# Altium schematic symbol library MCU_ST_STM8.SchLib: 34 symbols
Pins are listed as number, name and electrical type; pins without a type are passive.

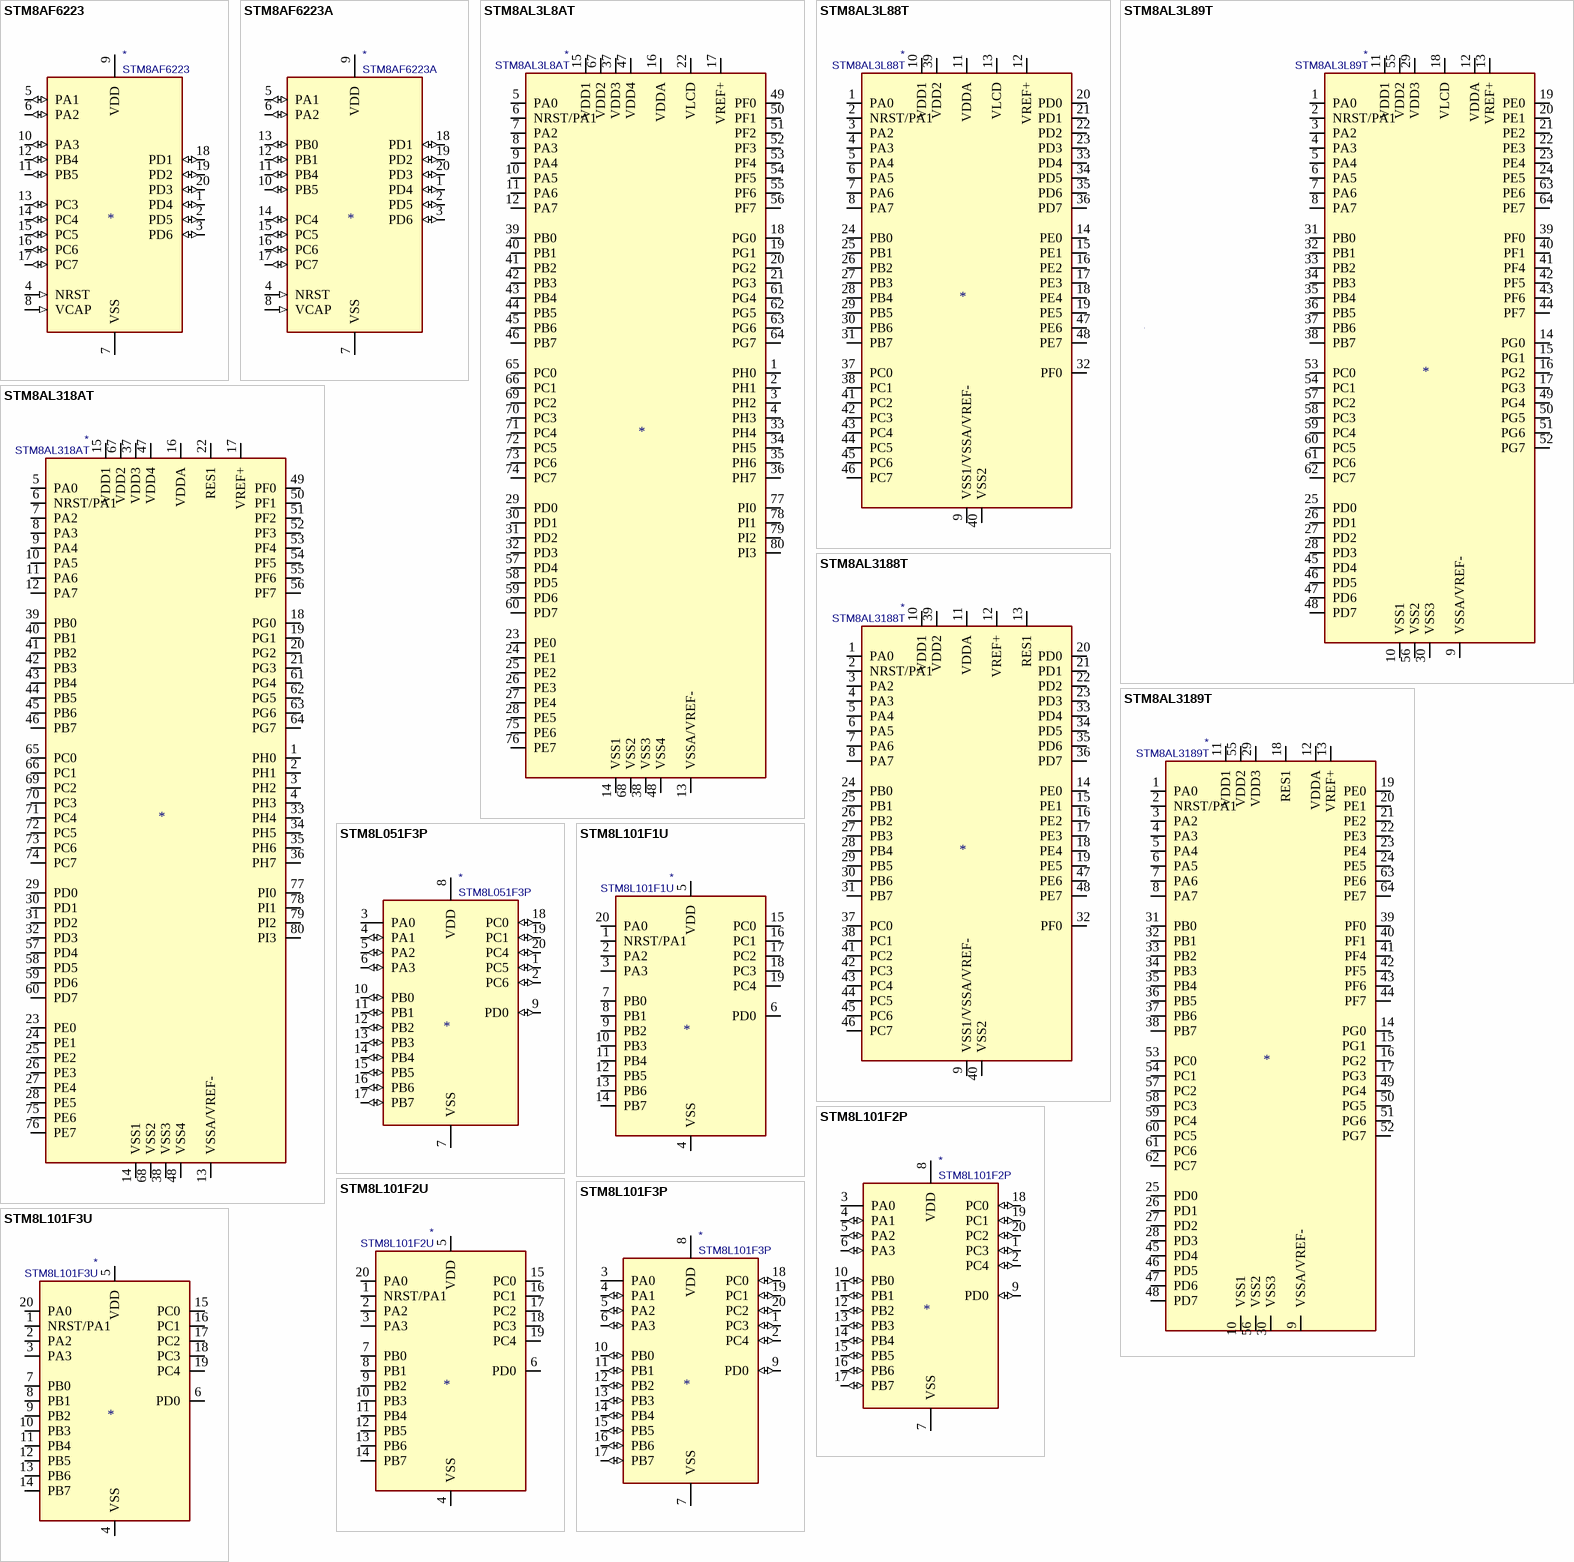
[diagram p0: symbols STM8AF6223 to STM8L101F3U]

## STM8AF6223
designator *  value STM8AF6223
ki_keywords: STM8 Microcontroller Automotive Line; ki_description: 16MHz, 8K Flash, 1K RAM, 640 EEPROM, USART, LIN,  I²C, SPI, ADC, TSSOP-20; ki_fp_filters: TSSOP*4.4x6.5mm*P0.65mm*; Footprint: Package_SO:TSSOP-20_4.4x6.5mm_P0.65mm; Supplier: http://www.st.com/resource/en/datasheet/stm8af6223.pdf
footprint TSSOP-20_4.4x6.5mm_P0.65mm
pins: 1 PD4 (io), 2 PD5 (io), 3 PD6 (io), 4 NRST (in), 5 PA1 (io), 6 PA2 (io), 7 VSS (power), 8 VCAP (in), 9 VDD (power), 10 PA3 (io), 11 PB5 (io), 12 PB4 (io), 13 PC3 (io), 14 PC4 (io), 15 PC5 (io), 16 PC6 (io), 17 PC7 (io), 18 PD1 (io), 19 PD2 (io), 20 PD3 (io)

## STM8AF6223A
designator *  value STM8AF6223A
ki_keywords: STM8 Microcontroller Automotive Line; ki_description: 16MHz, 8K Flash, 1K RAM, 640 EEPROM, USART, LIN,  I²C, SPI, ADC, TSSOP-20; ki_fp_filters: TSSOP*4.4x6.5mm*P0.65mm*; Footprint: Package_SO:TSSOP-20_4.4x6.5mm_P0.65mm; Supplier: http://www.st.com/resource/en/datasheet/stm8af6223.pdf
footprint TSSOP-20_4.4x6.5mm_P0.65mm
pins: 1 PD4 (io), 2 PD5 (io), 3 PD6 (io), 4 NRST (in), 5 PA1 (io), 6 PA2 (io), 7 VSS (power), 8 VCAP (in), 9 VDD (power), 10 PB5 (io), 11 PB4 (io), 12 PB1 (io), 13 PB0 (io), 14 PC4 (io), 15 PC5 (io), 16 PC6 (io), 17 PC7 (io), 18 PD1 (io), 19 PD2 (io), 20 PD3 (io)

## STM8AL3L8AT
designator *  value STM8AL3L8AT
ki_keywords: STM8 automotive ultra-low-power; ki_description: Automotive 8-bit ultra-low-power MCU, 64-Kbyte Flash with LCD, LQFP-80; ki_fp_filters: LQFP*14x14mm*P0.65mm*; Footprint: Package_QFP:LQFP-80_14x14mm_P0.65mm; Supplier: https://www.st.com/resource/en/datasheet/stm8al3188.pdf
footprint LQFP-80_14x14mm_P0.65mm
pins: 1 PH0 (io), 2 PH1 (io), 3 PH2 (io), 4 PH3 (io), 5 PA0 (io), 6 NRST/PA1 (io), 7 PA2 (io), 8 PA3 (io), 9 PA4 (io), 10 PA5 (io), 11 PA6 (io), 12 PA7 (io), 13 VSSA/VREF- (power), 14 VSS1 (power), 15 VDD1 (power), 16 VDDA (power), 17 VREF+ (power), 18 PG0 (io), 19 PG1 (io), 20 PG2 (io), 21 PG3 (io), 22 VLCD (power), 23 PE0 (io), 24 PE1 (io), 25 PE2 (io), 26 PE3 (io), 27 PE4 (io), 28 PE5 (io), 29 PD0 (io), 30 PD1 (io), 31 PD2 (io), 32 PD3 (io), 33 PH4 (io), 34 PH5 (io), 35 PH6 (io), 36 PH7 (io), 37 VDD3 (power), 38 VSS3 (power), 39 PB0 (io), 40 PB1 (io), 41 PB2 (io), 42 PB3 (io), 43 PB4 (io), 44 PB5 (io), 45 PB6 (io), 46 PB7 (io), 47 VDD4 (power), 48 VSS4 (power), 49 PF0 (io), 50 PF1 (io), 51 PF2 (io), 52 PF3 (io), 53 PF4 (io), 54 PF5 (io), 55 PF6 (io), 56 PF7 (io), 57 PD4 (io), 58 PD5 (io), 59 PD6 (io), 60 PD7 (io), 61 PG4 (io), 62 PG5 (io), 63 PG6 (io), 64 PG7 (io), 65 PC0 (io), 66 PC1 (io), 67 VDD2 (power), 68 VSS2 (power), 69 PC2 (io), 70 PC3 (io), 71 PC4 (io), 72 PC5 (io), 73 PC6 (io), 74 PC7 (io), 75 PE6 (io), 76 PE7 (io), 77 PI0 (io), 78 PI1 (io), 79 PI2 (io), 80 PI3 (io)

## STM8AL3L88T
designator *  value STM8AL3L88T
ki_keywords: STM8 automotive ultra-low-power; ki_description: Automotive 8-bit ultra-low-power MCU, 64-Kbyte Flash with LCD, LQFP-48; ki_fp_filters: LQFP*7x7mm*P0.5mm*; Footprint: Package_QFP:LQFP-48_7x7mm_P0.5mm; Supplier: https://www.st.com/resource/en/datasheet/stm8al3188.pdf
footprint LQFP-48_7x7mm_P0.5mm
pins: 1 PA0 (io), 2 NRST/PA1 (io), 3 PA2 (io), 4 PA3 (io), 5 PA4 (io), 6 PA5 (io), 7 PA6 (io), 8 PA7 (io), 9 VSS1/VSSA/VREF- (power), 10 VDD1 (power), 11 VDDA (power), 12 VREF+ (power), 13 VLCD (power), 14 PE0 (io), 15 PE1 (io), 16 PE2 (io), 17 PE3 (io), 18 PE4 (io), 19 PE5 (io), 20 PD0 (io), 21 PD1 (io), 22 PD2 (io), 23 PD3 (io), 24 PB0 (io), 25 PB1 (io), 26 PB2 (io), 27 PB3 (io), 28 PB4 (io), 29 PB5 (io), 30 PB6 (io), 31 PB7 (io), 32 PF0 (io), 33 PD4 (io), 34 PD5 (io), 35 PD6 (io), 36 PD7 (io), 37 PC0 (io), 38 PC1 (io), 39 VDD2 (power), 40 VSS2 (power), 41 PC2 (io), 42 PC3 (io), 43 PC4 (io), 44 PC5 (io), 45 PC6 (io), 46 PC7 (io), 47 PE6 (io), 48 PE7 (io)

## STM8AL3L89T
designator *  value STM8AL3L89T
ki_keywords: STM8 automotive ultra-low-power; ki_description: Automotive 8-bit ultra-low-power MCU, 64-Kbyte Flash with LCD, LQFP-64; ki_fp_filters: LQFP*10x10mm*P0.5mm*; Footprint: Package_QFP:LQFP-64_10x10mm_P0.5mm; Supplier: https://www.st.com/resource/en/datasheet/stm8al3188.pdf
footprint LQFP-64_10x10mm_P0.5mm
pins: 1 PA0 (io), 2 NRST/PA1 (io), 3 PA2 (io), 4 PA3 (io), 5 PA4 (io), 6 PA5 (io), 7 PA6 (io), 8 PA7 (io), 9 VSSA/VREF- (power), 10 VSS1 (power), 11 VDD1 (power), 12 VDDA (power), 13 VREF+ (power), 14 PG0 (io), 15 PG1 (io), 16 PG2 (io), 17 PG3 (io), 18 VLCD (power), 19 PE0 (io), 20 PE1 (io), 21 PE2 (io), 22 PE3 (io), 23 PE4 (io), 24 PE5 (io), 25 PD0 (io), 26 PD1 (io), 27 PD2 (io), 28 PD3 (io), 29 VDD3 (power), 30 VSS3 (power), 31 PB0 (io), 32 PB1 (io), 33 PB2 (io), 34 PB3 (io), 35 PB4 (io), 36 PB5 (io), 37 PB6 (io), 38 PB7 (io), 39 PF0 (io), 40 PF1 (io), 41 PF4 (io), 42 PF5 (io), 43 PF6 (io), 44 PF7 (io), 45 PD4 (io), 46 PD5 (io), 47 PD6 (io), 48 PD7 (io), 49 PG4 (io), 50 PG5 (io), 51 PG6 (io), 52 PG7 (io), 53 PC0 (io), 54 PC1 (io), 55 VDD2 (power), 56 VSS2 (power), 57 PC2 (io), 58 PC3 (io), 59 PC4 (io), 60 PC5 (io), 61 PC6 (io), 62 PC7 (io), 63 PE6 (io), 64 PE7 (io)

## STM8AL318AT
designator *  value STM8AL318AT
ki_keywords: STM8 automotive ultra-low-power; ki_description: Automotive 8-bit ultra-low-power MCU, 64-Kbyte Flash, LQFP-80; ki_fp_filters: LQFP*14x14mm*P0.65mm*; Footprint: Package_QFP:LQFP-80_14x14mm_P0.65mm; Supplier: https://www.st.com/resource/en/datasheet/stm8al3188.pdf
footprint LQFP-80_14x14mm_P0.65mm
pins: 1 PH0 (io), 2 PH1 (io), 3 PH2 (io), 4 PH3 (io), 5 PA0 (io), 6 NRST/PA1 (io), 7 PA2 (io), 8 PA3 (io), 9 PA4 (io), 10 PA5 (io), 11 PA6 (io), 12 PA7 (io), 13 VSSA/VREF- (power), 14 VSS1 (power), 15 VDD1 (power), 16 VDDA (power), 17 VREF+ (power), 18 PG0 (io), 19 PG1 (io), 20 PG2 (io), 21 PG3 (io), 22 RES1 (power), 23 PE0 (io), 24 PE1 (io), 25 PE2 (io), 26 PE3 (io), 27 PE4 (io), 28 PE5 (io), 29 PD0 (io), 30 PD1 (io), 31 PD2 (io), 32 PD3 (io), 33 PH4 (io), 34 PH5 (io), 35 PH6 (io), 36 PH7 (io), 37 VDD3 (power), 38 VSS3 (power), 39 PB0 (io), 40 PB1 (io), 41 PB2 (io), 42 PB3 (io), 43 PB4 (io), 44 PB5 (io), 45 PB6 (io), 46 PB7 (io), 47 VDD4 (power), 48 VSS4 (power), 49 PF0 (io), 50 PF1 (io), 51 PF2 (io), 52 PF3 (io), 53 PF4 (io), 54 PF5 (io), 55 PF6 (io), 56 PF7 (io), 57 PD4 (io), 58 PD5 (io), 59 PD6 (io), 60 PD7 (io), 61 PG4 (io), 62 PG5 (io), 63 PG6 (io), 64 PG7 (io), 65 PC0 (io), 66 PC1 (io), 67 VDD2 (power), 68 VSS2 (power), 69 PC2 (io), 70 PC3 (io), 71 PC4 (io), 72 PC5 (io), 73 PC6 (io), 74 PC7 (io), 75 PE6 (io), 76 PE7 (io), 77 PI0 (io), 78 PI1 (io), 79 PI2 (io), 80 PI3 (io)

## STM8AL3188T
designator *  value STM8AL3188T
ki_keywords: STM8 automotive ultra-low-power; ki_description: Automotive 8-bit ultra-low-power MCU, 64-Kbyte Flash, LQFP-48; ki_fp_filters: LQFP*7x7mm*P0.5mm*; Footprint: Package_QFP:LQFP-48_7x7mm_P0.5mm; Supplier: https://www.st.com/resource/en/datasheet/stm8al3188.pdf
footprint LQFP-48_7x7mm_P0.5mm
pins: 1 PA0 (io), 2 NRST/PA1 (io), 3 PA2 (io), 4 PA3 (io), 5 PA4 (io), 6 PA5 (io), 7 PA6 (io), 8 PA7 (io), 9 VSS1/VSSA/VREF- (power), 10 VDD1 (power), 11 VDDA (power), 12 VREF+ (power), 13 RES1 (power), 14 PE0 (io), 15 PE1 (io), 16 PE2 (io), 17 PE3 (io), 18 PE4 (io), 19 PE5 (io), 20 PD0 (io), 21 PD1 (io), 22 PD2 (io), 23 PD3 (io), 24 PB0 (io), 25 PB1 (io), 26 PB2 (io), 27 PB3 (io), 28 PB4 (io), 29 PB5 (io), 30 PB6 (io), 31 PB7 (io), 32 PF0 (io), 33 PD4 (io), 34 PD5 (io), 35 PD6 (io), 36 PD7 (io), 37 PC0 (io), 38 PC1 (io), 39 VDD2 (power), 40 VSS2 (power), 41 PC2 (io), 42 PC3 (io), 43 PC4 (io), 44 PC5 (io), 45 PC6 (io), 46 PC7 (io), 47 PE6 (io), 48 PE7 (io)

## STM8AL3189T
designator *  value STM8AL3189T
ki_keywords: STM8 automotive ultra-low-power; ki_description: Automotive 8-bit ultra-low-power MCU, 64-Kbyte Flash, LQFP-64; ki_fp_filters: LQFP*10x10mm*P0.5mm*; Footprint: Package_QFP:LQFP-64_10x10mm_P0.5mm; Supplier: https://www.st.com/resource/en/datasheet/stm8al3188.pdf
footprint LQFP-64_10x10mm_P0.5mm
pins: 1 PA0 (io), 2 NRST/PA1 (io), 3 PA2 (io), 4 PA3 (io), 5 PA4 (io), 6 PA5 (io), 7 PA6 (io), 8 PA7 (io), 9 VSSA/VREF- (power), 10 VSS1 (power), 11 VDD1 (power), 12 VDDA (power), 13 VREF+ (power), 14 PG0 (io), 15 PG1 (io), 16 PG2 (io), 17 PG3 (io), 18 RES1 (power), 19 PE0 (io), 20 PE1 (io), 21 PE2 (io), 22 PE3 (io), 23 PE4 (io), 24 PE5 (io), 25 PD0 (io), 26 PD1 (io), 27 PD2 (io), 28 PD3 (io), 29 VDD3 (power), 30 VSS3 (power), 31 PB0 (io), 32 PB1 (io), 33 PB2 (io), 34 PB3 (io), 35 PB4 (io), 36 PB5 (io), 37 PB6 (io), 38 PB7 (io), 39 PF0 (io), 40 PF1 (io), 41 PF4 (io), 42 PF5 (io), 43 PF6 (io), 44 PF7 (io), 45 PD4 (io), 46 PD5 (io), 47 PD6 (io), 48 PD7 (io), 49 PG4 (io), 50 PG5 (io), 51 PG6 (io), 52 PG7 (io), 53 PC0 (io), 54 PC1 (io), 55 VDD2 (power), 56 VSS2 (power), 57 PC2 (io), 58 PC3 (io), 59 PC4 (io), 60 PC5 (io), 61 PC6 (io), 62 PC7 (io), 63 PE6 (io), 64 PE7 (io)

## STM8L051F3P
designator *  value STM8L051F3P
ki_keywords: STM8L Microcontroller Value Line Low Power; ki_description: 16MHz, 8K Flash, 1K RAM, 256 EEPROM, RTC, USART,  I²C, SPI, ADC, TSSOP-20; ki_fp_filters: TSSOP*4.4x6.5mm*P0.65mm*; Footprint: Package_SO:TSSOP-20_4.4x6.5mm_P0.65mm; Supplier: http://www.st.com/st-web-ui/static/active/en/resource/technical/document/datasheet/DM00060484.pdf
footprint TSSOP-20_4.4x6.5mm_P0.65mm
pins: 1 PC5 (io), 2 PC6 (io), 3 PA0 (power), 4 PA1 (io), 5 PA2 (io), 6 PA3 (io), 7 VSS (power), 8 VDD (power), 9 PD0 (io), 10 PB0 (io), 11 PB1 (io), 12 PB2 (io), 13 PB3 (io), 14 PB4 (io), 15 PB5 (io), 16 PB6 (io), 17 PB7 (io), 18 PC0 (io), 19 PC1 (io), 20 PC4 (io)

## STM8L101F1U
designator *  value STM8L101F1U
ki_keywords: STM8L Microcontroller Value Line Low Power; ki_description: 16MHz, 2K Flash, 1.5K RAM, 2K EEPROM, USART,  I²C, SPI, ADC, UFQFPN-20; ki_fp_filters: ST?UFQFPN*3x3mm*P0.5mm*; Footprint: Package_DFN_QFN:ST_UFQFPN-20_3x3mm_P0.5mm; Supplier: https://www.st.com/resource/en/datasheet/stm8l101f1.pdf
footprint ST_UFQFPN-20_3x3mm_P0.5mm
pins: 1 NRST/PA1 (io), 2 PA2 (io), 3 PA3 (io), 4 VSS (power), 5 VDD (power), 6 PD0 (io), 7 PB0 (io), 8 PB1 (io), 9 PB2 (io), 10 PB3 (io), 11 PB4 (io), 12 PB5 (io), 13 PB6 (io), 14 PB7 (io), 15 PC0 (io), 16 PC1 (io), 17 PC2 (io), 18 PC3 (io), 19 PC4 (io), 20 PA0 (io)

## STM8L101F2P
designator *  value STM8L101F2P
ki_keywords: STM8L Microcontroller Value Line Low Power; ki_description: 16MHz, 4K Flash, 1.5K RAM, 2K EEPROM, USART,  I²C, SPI, ADC, TSSOP-20; ki_fp_filters: TSSOP*4.4x6.5mm*P0.65mm*; Footprint: Package_SO:TSSOP-20_4.4x6.5mm_P0.65mm; Supplier: http://www.st.com/st-web-ui/static/active/en/resource/technical/document/datasheet/CD00220591.pdf
footprint TSSOP-20_4.4x6.5mm_P0.65mm
pins: 1 PC3 (io), 2 PC4 (io), 3 PA0 (power), 4 PA1 (io), 5 PA2 (io), 6 PA3 (io), 7 VSS (power), 8 VDD (power), 9 PD0 (io), 10 PB0 (io), 11 PB1 (io), 12 PB2 (io), 13 PB3 (io), 14 PB4 (io), 15 PB5 (io), 16 PB6 (io), 17 PB7 (io), 18 PC0 (io), 19 PC1 (io), 20 PC2 (io)

## STM8L101F2U
designator *  value STM8L101F2U
ki_keywords: STM8L Microcontroller Value Line Low Power; ki_description: 16MHz, 4K Flash, 1.5K RAM, 2K EEPROM, USART,  I²C, SPI, ADC, UFQFPN-20; ki_fp_filters: ST?UFQFPN*3x3mm*P0.5mm*; Footprint: Package_DFN_QFN:ST_UFQFPN-20_3x3mm_P0.5mm; Supplier: https://www.st.com/resource/en/datasheet/stm8l101f1.pdf
footprint ST_UFQFPN-20_3x3mm_P0.5mm
pins: 1 NRST/PA1 (io), 2 PA2 (io), 3 PA3 (io), 4 VSS (power), 5 VDD (power), 6 PD0 (io), 7 PB0 (io), 8 PB1 (io), 9 PB2 (io), 10 PB3 (io), 11 PB4 (io), 12 PB5 (io), 13 PB6 (io), 14 PB7 (io), 15 PC0 (io), 16 PC1 (io), 17 PC2 (io), 18 PC3 (io), 19 PC4 (io), 20 PA0 (io)

## STM8L101F3P
designator *  value STM8L101F3P
ki_keywords: STM8L Microcontroller Value Line Low Power; ki_description: 16MHz, 8K Flash, 1.5K RAM, 2K EEPROM, USART, I²C, SPI, ADC, TSSOP-20; ki_fp_filters: TSSOP*4.4x6.5mm*P0.65mm*; Footprint: Package_SO:TSSOP-20_4.4x6.5mm_P0.65mm; Supplier: http://www.st.com/st-web-ui/static/active/en/resource/technical/document/datasheet/CD00220591.pdf
footprint TSSOP-20_4.4x6.5mm_P0.65mm
pins: 1 PC3 (io), 2 PC4 (io), 3 PA0 (power), 4 PA1 (io), 5 PA2 (io), 6 PA3 (io), 7 VSS (power), 8 VDD (power), 9 PD0 (io), 10 PB0 (io), 11 PB1 (io), 12 PB2 (io), 13 PB3 (io), 14 PB4 (io), 15 PB5 (io), 16 PB6 (io), 17 PB7 (io), 18 PC0 (io), 19 PC1 (io), 20 PC2 (io)

## STM8L101F3U
designator *  value STM8L101F3U
ki_keywords: STM8L Microcontroller Value Line Low Power; ki_description: 16MHz, 8K Flash, 1.5K RAM, 2K EEPROM, USART,  I²C, SPI, ADC, UFQFPN-20; ki_fp_filters: ST?UFQFPN*3x3mm*P0.5mm*; Footprint: Package_DFN_QFN:ST_UFQFPN-20_3x3mm_P0.5mm; Supplier: https://www.st.com/resource/en/datasheet/stm8l101f1.pdf
footprint ST_UFQFPN-20_3x3mm_P0.5mm
pins: 1 NRST/PA1 (io), 2 PA2 (io), 3 PA3 (io), 4 VSS (power), 5 VDD (power), 6 PD0 (io), 7 PB0 (io), 8 PB1 (io), 9 PB2 (io), 10 PB3 (io), 11 PB4 (io), 12 PB5 (io), 13 PB6 (io), 14 PB7 (io), 15 PC0 (io), 16 PC1 (io), 17 PC2 (io), 18 PC3 (io), 19 PC4 (io), 20 PA0 (io)

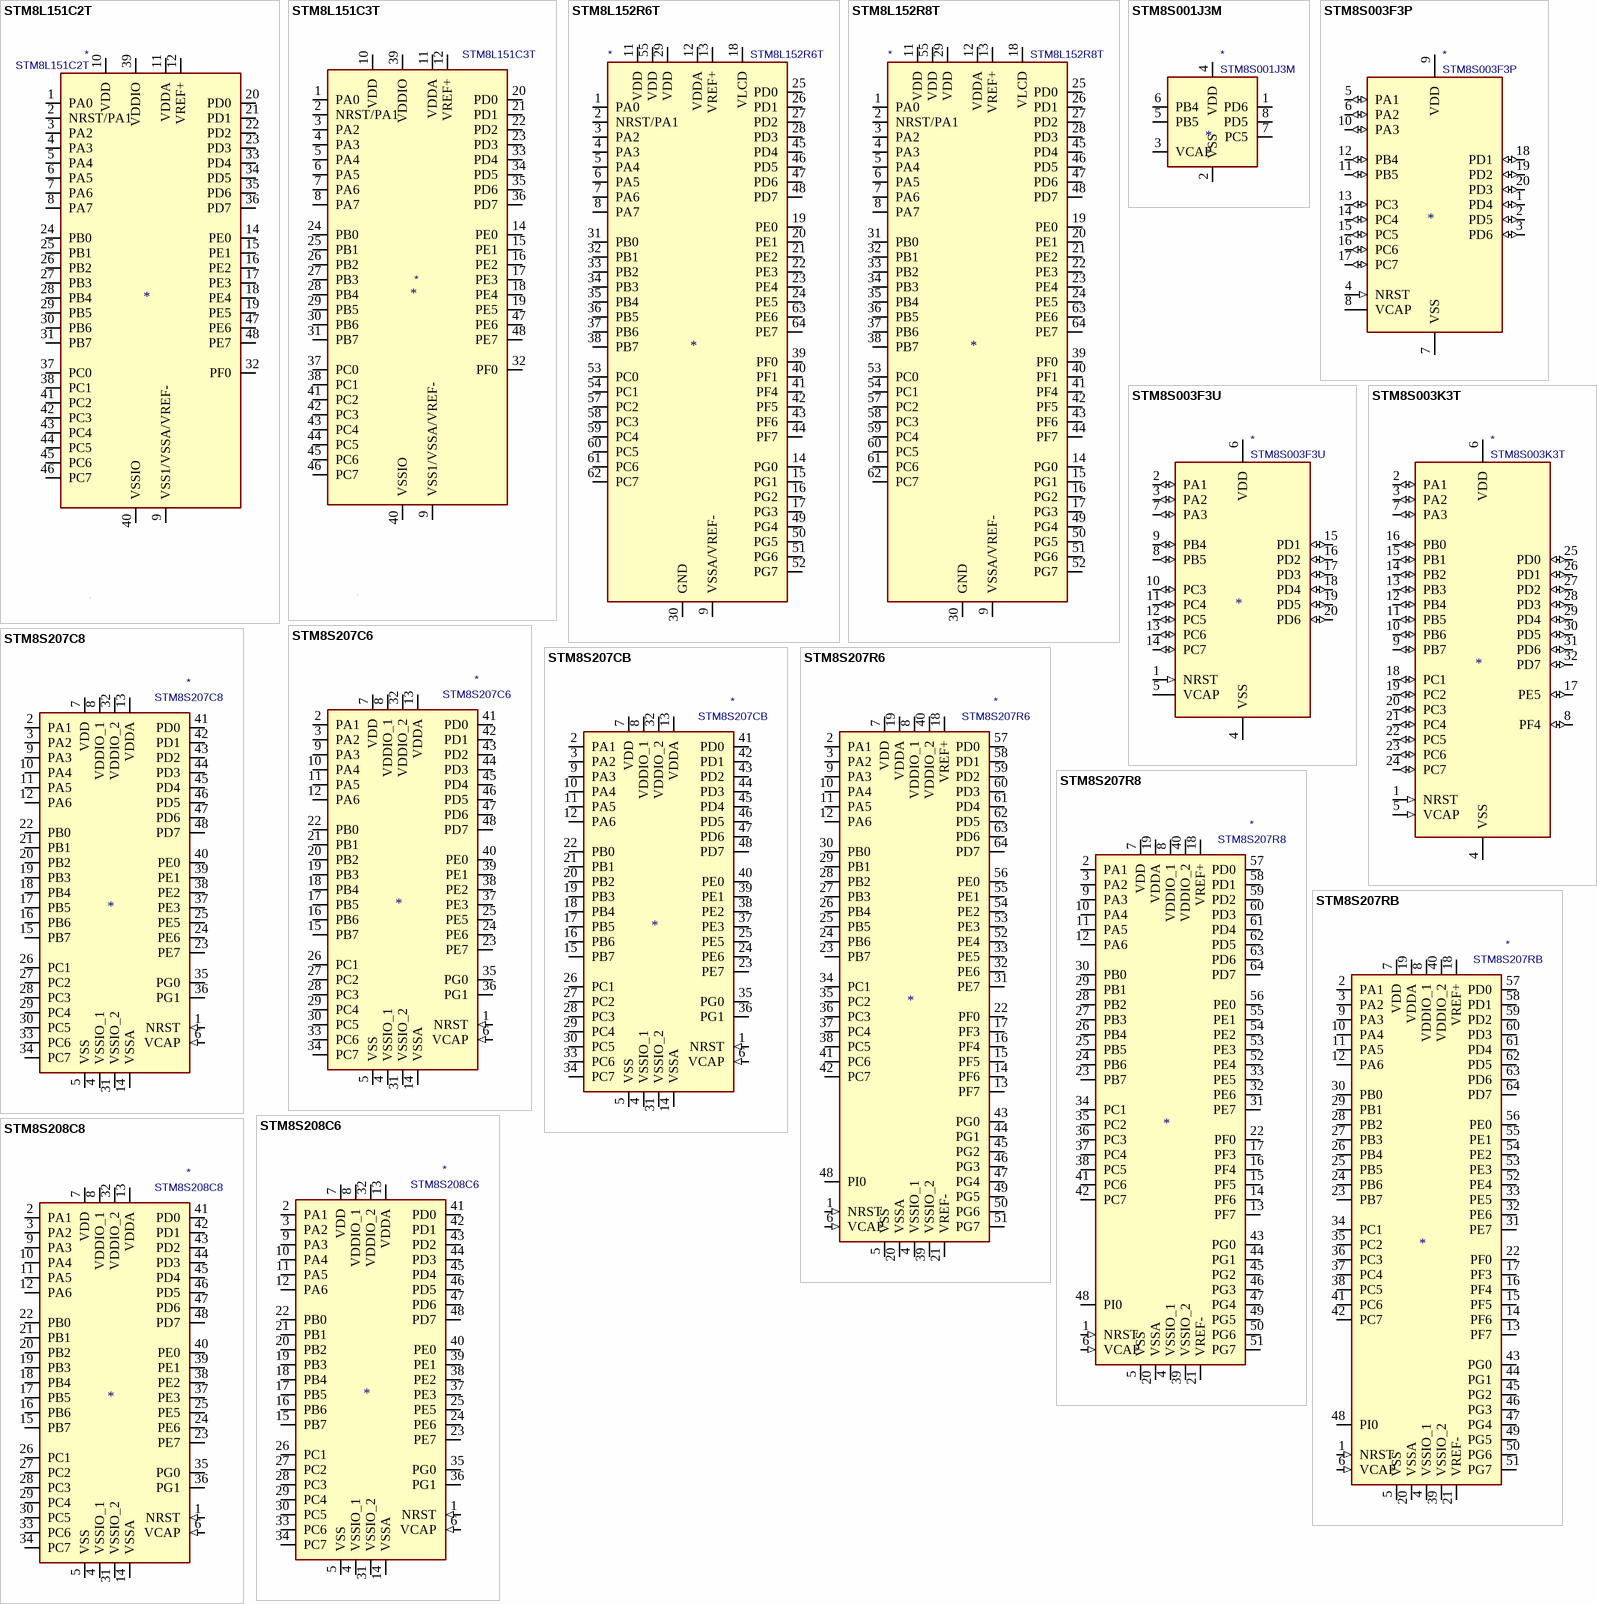
[diagram p1: symbols STM8L151C2T to STM8S208C8]

## STM8L151C2T
designator *  value STM8L151C2T
ki_keywords: STM8 ultra-low-power; ki_description: 8-bit ultra-low-power MCU, 4 KB Flash, 256 bytes data EEPROM, LQFP-48; ki_fp_filters: LQFP*7x7mm*P0.5mm*; Footprint: Package_QFP:LQFP-48_7x7mm_P0.5mm; Supplier: https://www.st.com/resource/en/datasheet/stm8l151c3.pdf
footprint LQFP-48_7x7mm_P0.5mm
pins: 1 PA0 (io), 2 NRST/PA1 (io), 3 PA2 (io), 4 PA3 (io), 5 PA4 (io), 6 PA5 (io), 7 PA6 (io), 8 PA7 (io), 9 VSS1/VSSA/VREF- (power), 10 VDD (power), 11 VDDA (power), 12 VREF+ (power), 13 NC (in) hidden, 14 PE0 (io), 15 PE1 (io), 16 PE2 (io), 17 PE3 (io), 18 PE4 (io), 19 PE5 (io), 20 PD0 (io), 21 PD1 (io), 22 PD2 (io), 23 PD3 (io), 24 PB0 (io), 25 PB1 (io), 26 PB2 (io), 27 PB3 (io), 28 PB4 (io), 29 PB5 (io), 30 PB6 (io), 31 PB7 (io), 32 PF0 (io), 33 PD4 (io), 34 PD5 (io), 35 PD6 (io), 36 PD7 (io), 37 PC0 (io), 38 PC1 (io), 39 VDDIO (power), 40 VSSIO (power), 41 PC2 (io), 42 PC3 (io), 43 PC4 (io), 44 PC5 (io), 45 PC6 (io), 46 PC7 (io), 47 PE6 (io), 48 PE7 (io)

## STM8L151C3T
designator *  value STM8L151C3T
ki_keywords: STM8 ultra-low-power; ki_description: 8-bit ultra-low-power MCU, 8 KB Flash, 256 bytes data EEPROM, LQFP-48; ki_fp_filters: LQFP*7x7mm*P0.5mm*; Footprint: Package_QFP:LQFP-48_7x7mm_P0.5mm; Supplier: https://www.st.com/resource/en/datasheet/stm8l151c3.pdf
footprint LQFP-48_7x7mm_P0.5mm
pins: 1 PA0 (io), 2 NRST/PA1 (io), 3 PA2 (io), 4 PA3 (io), 5 PA4 (io), 6 PA5 (io), 7 PA6 (io), 8 PA7 (io), 9 VSS1/VSSA/VREF- (power), 10 VDD (power), 11 VDDA (power), 12 VREF+ (power), 13 NC (in) hidden, 14 PE0 (io), 15 PE1 (io), 16 PE2 (io), 17 PE3 (io), 18 PE4 (io), 19 PE5 (io), 20 PD0 (io), 21 PD1 (io), 22 PD2 (io), 23 PD3 (io), 24 PB0 (io), 25 PB1 (io), 26 PB2 (io), 27 PB3 (io), 28 PB4 (io), 29 PB5 (io), 30 PB6 (io), 31 PB7 (io), 32 PF0 (io), 33 PD4 (io), 34 PD5 (io), 35 PD6 (io), 36 PD7 (io), 37 PC0 (io), 38 PC1 (io), 39 VDDIO (power), 40 VSSIO (power), 41 PC2 (io), 42 PC3 (io), 43 PC4 (io), 44 PC5 (io), 45 PC6 (io), 46 PC7 (io), 47 PE6 (io), 48 PE7 (io)

## STM8L152R6T
designator *  value STM8L152R6T
ki_keywords: STM8L Microcontroller Low Power LCD; ki_description: 16MHz, 32K Flash, 2K EEPROM, LCD, USART, I²C, SPI, ADC, DAC, LQFP-64; ki_fp_filters: LQFP*10x10mm*P0.5mm*; Footprint: Package_QFP:LQFP-64_10x10mm_P0.5mm; Supplier: https://www.st.com/resource/en/datasheet/stm8l152r6.pdf
footprint LQFP-64_10x10mm_P0.5mm
pins: 1 PA0 (io), 2 NRST/PA1 (io), 3 PA2 (io), 4 PA3 (io), 5 PA4 (io), 6 PA5 (io), 7 PA6 (io), 8 PA7 (io), 9 VSSA/VREF- (power), 10 GND hidden, 11 VDD (power), 12 VDDA (power), 13 VREF+ (power), 14 PG0 (io), 15 PG1 (io), 16 PG2 (io), 17 PG3 (io), 18 VLCD (power), 19 PE0 (io), 20 PE1 (io), 21 PE2 (io), 22 PE3 (io), 23 PE4 (io), 24 PE5 (io), 25 PD0 (io), 26 PD1 (io), 27 PD2 (io), 28 PD3 (io), 29 VDD (power), 30 GND (power), 31 PB0 (io), 32 PB1 (io), 33 PB2 (io), 34 PB3 (io), 35 PB4 (io), 36 PB5 (io), 37 PB6 (io), 38 PB7 (io), 39 PF0 (io), 40 PF1 (io), 41 PF4 (io), 42 PF5 (io), 43 PF6 (io), 44 PF7 (io), 45 PD4 (io), 46 PD5 (io), 47 PD6 (io), 48 PD7 (io), 49 PG4 (io), 50 PG5 (io), 51 PG6 (io), 52 PG7 (io), 53 PC0 (io), 54 PC1 (io), 55 VDD (power), 56 GND hidden, 57 PC2 (io), 58 PC3 (io), 59 PC4 (io), 60 PC5 (io), 61 PC6 (io), 62 PC7 (io), 63 PE6 (io), 64 PE7 (io)

## STM8L152R8T
designator *  value STM8L152R8T
ki_keywords: STM8L Microcontroller Low Power LCD; ki_description: 16MHz, 64K Flash, 2K EEPROM, LCD, USART, I²C, SPI, ADC, DAC, LQFP-64; ki_fp_filters: LQFP*10x10mm*P0.5mm*; Footprint: Package_QFP:LQFP-64_10x10mm_P0.5mm; Supplier: https://www.st.com/resource/en/datasheet/stm8l152r8.pdf
footprint LQFP-64_10x10mm_P0.5mm
pins: 1 PA0 (io), 2 NRST/PA1 (io), 3 PA2 (io), 4 PA3 (io), 5 PA4 (io), 6 PA5 (io), 7 PA6 (io), 8 PA7 (io), 9 VSSA/VREF- (power), 10 GND hidden, 11 VDD (power), 12 VDDA (power), 13 VREF+ (power), 14 PG0 (io), 15 PG1 (io), 16 PG2 (io), 17 PG3 (io), 18 VLCD (power), 19 PE0 (io), 20 PE1 (io), 21 PE2 (io), 22 PE3 (io), 23 PE4 (io), 24 PE5 (io), 25 PD0 (io), 26 PD1 (io), 27 PD2 (io), 28 PD3 (io), 29 VDD (power), 30 GND (power), 31 PB0 (io), 32 PB1 (io), 33 PB2 (io), 34 PB3 (io), 35 PB4 (io), 36 PB5 (io), 37 PB6 (io), 38 PB7 (io), 39 PF0 (io), 40 PF1 (io), 41 PF4 (io), 42 PF5 (io), 43 PF6 (io), 44 PF7 (io), 45 PD4 (io), 46 PD5 (io), 47 PD6 (io), 48 PD7 (io), 49 PG4 (io), 50 PG5 (io), 51 PG6 (io), 52 PG7 (io), 53 PC0 (io), 54 PC1 (io), 55 VDD (power), 56 GND hidden, 57 PC2 (io), 58 PC3 (io), 59 PC4 (io), 60 PC5 (io), 61 PC6 (io), 62 PC7 (io), 63 PE6 (io), 64 PE7 (io)

## STM8S001J3M
designator *  value STM8S001J3M
ki_keywords: STM8 Microcontroller Value Line; ki_description: 16MHz, 8K Flash, 1K RAM, 128 EEPROM, SO-8; ki_fp_filters: SO*3.9x4.9mm*P1.27mm*; Footprint: Package_SO:SO-8_3.9x4.9mm_P1.27mm; Supplier: https://www.st.com/resource/en/datasheet/stm8s001j3.pdf
footprint SO-8_3.9x4.9mm_P1.27mm
pins: 1 PD6 (io), 2 VSS (power), 3 VCAP, 4 VDD (power), 5 PB5 (io), 6 PB4 (io), 7 PC5 (io), 8 PD5 (io)

## STM8S003F3P
designator *  value STM8S003F3P
ki_keywords: STM8S Mainstream Value line 8-bit, 16MHz, 1k RAM, 128 EEPROM; ki_description: 16MHz, 8K Flash, 1K RAM, 128 EEPROM, USART, I²C, SPI, TSSOP-20; ki_fp_filters: TSSOP*4.4x6.5mm*P0.65mm*; Footprint: Package_SO:TSSOP-20_4.4x6.5mm_P0.65mm; Supplier: http://www.st.com/st-web-ui/static/active/en/resource/technical/document/datasheet/DM00024550.pdf
footprint TSSOP-20_4.4x6.5mm_P0.65mm
pins: 1 PD4 (io), 2 PD5 (io), 3 PD6 (io), 4 NRST (in), 5 PA1 (io), 6 PA2 (io), 7 VSS (power), 8 VCAP, 9 VDD (power), 10 PA3 (io), 11 PB5 (io), 12 PB4 (io), 13 PC3 (io), 14 PC4 (io), 15 PC5 (io), 16 PC6 (io), 17 PC7 (io), 18 PD1 (io), 19 PD2 (io), 20 PD3 (io)

## STM8S003F3U
designator *  value STM8S003F3U
ki_keywords: STM8S Mainstream Value line 8-bit, 16MHz, 1k RAM, 128 EEPROM; ki_description: 16MHz, 8K Flash, 1K RAM, 128 EEPROM, USART, I²C, SPI, UFQFPN-20; ki_fp_filters: ST?UFQFPN*3x3mm*P0.5mm*; Footprint: Package_DFN_QFN:ST_UFQFPN-20_3x3mm_P0.5mm; Supplier: http://www.st.com/st-web-ui/static/active/en/resource/technical/document/datasheet/DM00024550.pdf
footprint ST_UFQFPN-20_3x3mm_P0.5mm
pins: 1 NRST (in), 2 PA1 (io), 3 PA2 (io), 4 VSS (power), 5 VCAP, 6 VDD (power), 7 PA3 (io), 8 PB5 (io), 9 PB4 (io), 10 PC3 (io), 11 PC4 (io), 12 PC5 (io), 13 PC6 (io), 14 PC7 (io), 15 PD1 (io), 16 PD2 (io), 17 PD3 (io), 18 PD4 (io), 19 PD5 (io), 20 PD6 (io)

## STM8S003K3T
designator *  value STM8S003K3T
ki_keywords: STM8 Microcontroller Value Line; ki_description: 16MHz, 8K Flash, 1K RAM, 128 EEPROM, LQFP-32; ki_fp_filters: LQFP*7x7mm*P0.8mm*; Footprint: Package_QFP:LQFP-32_7x7mm_P0.8mm; Supplier: http://www.st.com/st-web-ui/static/active/en/resource/technical/document/datasheet/DM00024550.pdf
footprint LQFP-32_7x7mm_P0.8mm
pins: 1 NRST (in), 2 PA1 (io), 3 PA2 (io), 4 VSS (power), 5 VCAP (in), 6 VDD (power), 7 PA3 (io), 8 PF4 (io), 9 PB7 (io), 10 PB6 (io), 11 PB5 (io), 12 PB4 (io), 13 PB3 (io), 14 PB2 (io), 15 PB1 (io), 16 PB0 (io), 17 PE5 (io), 18 PC1 (io), 19 PC2 (io), 20 PC3 (io), 21 PC4 (io), 22 PC5 (io), 23 PC6 (io), 24 PC7 (io), 25 PD0 (io), 26 PD1 (io), 27 PD2 (io), 28 PD3 (io), 29 PD4 (io), 30 PD5 (io), 31 PD6 (io), 32 PD7 (io)

## STM8S207C6
designator *  value STM8S207C6
ki_keywords: STM8 Microcontroller Performance Line; ki_description: 24MHz, 32K Flash, 2K EEPROM, 10-bit ADC, 2 UARTs, SPI, I²C, LQFP-48; ki_fp_filters: LQFP*7x7mm*P0.5mm*; Footprint: Package_QFP:LQFP-48_7x7mm_P0.5mm; Supplier: https://www.st.com/resource/en/datasheet/stm8s208cb.pdf
footprint LQFP-48_7x7mm_P0.5mm
pins: 1 NRST (in), 2 PA1 (io), 3 PA2 (io), 4 VSSIO_1 (power), 5 VSS (power), 6 VCAP (in), 7 VDD (power), 8 VDDIO_1 (power), 9 PA3 (io), 10 PA4 (io), 11 PA5 (io), 12 PA6 (io), 13 VDDA (power), 14 VSSA (power), 15 PB7 (io), 16 PB6 (io), 17 PB5 (io), 18 PB4 (io), 19 PB3 (io), 20 PB2 (io), 21 PB1 (io), 22 PB0 (io), 23 PE7 (io), 24 PE6 (io), 25 PE5 (io), 26 PC1 (io), 27 PC2 (io), 28 PC3 (io), 29 PC4 (io), 30 PC5 (io), 31 VSSIO_2 (power), 32 VDDIO_2 (power), 33 PC6 (io), 34 PC7 (io), 35 PG0 (io), 36 PG1 (io), 37 PE3 (io), 38 PE2 (io), 39 PE1 (io), 40 PE0 (io), 41 PD0 (io), 42 PD1 (io), 43 PD2 (io), 44 PD3 (io), 45 PD4 (io), 46 PD5 (io), 47 PD6 (io), 48 PD7 (io)

## STM8S207C8
designator *  value STM8S207C8
ki_keywords: STM8 Microcontroller Performance Line; ki_description: 24MHz, 64K Flash, 2K EEPROM, 10-bit ADC, 2 UARTs, SPI, I²C, LQFP-48; ki_fp_filters: LQFP*7x7mm*P0.5mm*; Footprint: Package_QFP:LQFP-48_7x7mm_P0.5mm; Supplier: https://www.st.com/resource/en/datasheet/stm8s208cb.pdf
footprint LQFP-48_7x7mm_P0.5mm
pins: 1 NRST (in), 2 PA1 (io), 3 PA2 (io), 4 VSSIO_1 (power), 5 VSS (power), 6 VCAP (in), 7 VDD (power), 8 VDDIO_1 (power), 9 PA3 (io), 10 PA4 (io), 11 PA5 (io), 12 PA6 (io), 13 VDDA (power), 14 VSSA (power), 15 PB7 (io), 16 PB6 (io), 17 PB5 (io), 18 PB4 (io), 19 PB3 (io), 20 PB2 (io), 21 PB1 (io), 22 PB0 (io), 23 PE7 (io), 24 PE6 (io), 25 PE5 (io), 26 PC1 (io), 27 PC2 (io), 28 PC3 (io), 29 PC4 (io), 30 PC5 (io), 31 VSSIO_2 (power), 32 VDDIO_2 (power), 33 PC6 (io), 34 PC7 (io), 35 PG0 (io), 36 PG1 (io), 37 PE3 (io), 38 PE2 (io), 39 PE1 (io), 40 PE0 (io), 41 PD0 (io), 42 PD1 (io), 43 PD2 (io), 44 PD3 (io), 45 PD4 (io), 46 PD5 (io), 47 PD6 (io), 48 PD7 (io)

## STM8S207CB
designator *  value STM8S207CB
ki_keywords: STM8 Microcontroller Performance Line; ki_description: 24MHz, 128K Flash, 2K EEPROM, 10-bit ADC, 2 UARTs, SPI, I²C, LQFP-48; ki_fp_filters: LQFP*7x7mm*P0.5mm*; Footprint: Package_QFP:LQFP-48_7x7mm_P0.5mm; Supplier: https://www.st.com/resource/en/datasheet/stm8s208cb.pdf
footprint LQFP-48_7x7mm_P0.5mm
pins: 1 NRST (in), 2 PA1 (io), 3 PA2 (io), 4 VSSIO_1 (power), 5 VSS (power), 6 VCAP (in), 7 VDD (power), 8 VDDIO_1 (power), 9 PA3 (io), 10 PA4 (io), 11 PA5 (io), 12 PA6 (io), 13 VDDA (power), 14 VSSA (power), 15 PB7 (io), 16 PB6 (io), 17 PB5 (io), 18 PB4 (io), 19 PB3 (io), 20 PB2 (io), 21 PB1 (io), 22 PB0 (io), 23 PE7 (io), 24 PE6 (io), 25 PE5 (io), 26 PC1 (io), 27 PC2 (io), 28 PC3 (io), 29 PC4 (io), 30 PC5 (io), 31 VSSIO_2 (power), 32 VDDIO_2 (power), 33 PC6 (io), 34 PC7 (io), 35 PG0 (io), 36 PG1 (io), 37 PE3 (io), 38 PE2 (io), 39 PE1 (io), 40 PE0 (io), 41 PD0 (io), 42 PD1 (io), 43 PD2 (io), 44 PD3 (io), 45 PD4 (io), 46 PD5 (io), 47 PD6 (io), 48 PD7 (io)

## STM8S207R6
designator *  value STM8S207R6
ki_keywords: STM8 Microcontroller Performance Line; ki_description: 24MHz, 32K Flash, 2K EEPROM, 10-bit ADC, 2 UARTs, SPI, I²C, LQFP-64; ki_fp_filters: LQFP*10x10mm*P0.5mm*; Footprint: Package_QFP:LQFP-64_10x10mm_P0.5mm; Supplier: https://www.st.com/resource/en/datasheet/stm8s208rb.pdf
footprint LQFP-64_10x10mm_P0.5mm
pins: 1 NRST (in), 2 PA1 (io), 3 PA2 (io), 4 VSSIO_1 (power), 5 VSS (power), 6 VCAP (in), 7 VDD (power), 8 VDDIO_1 (power), 9 PA3 (io), 10 PA4 (io), 11 PA5 (io), 12 PA6 (io), 13 PF7 (io), 14 PF6 (io), 15 PF5 (io), 16 PF4 (io), 17 PF3 (io), 18 VREF+ (power), 19 VDDA (power), 20 VSSA (power), 21 VREF- (power), 22 PF0 (io), 23 PB7 (io), 24 PB6 (io), 25 PB5 (io), 26 PB4 (io), 27 PB3 (io), 28 PB2 (io), 29 PB1 (io), 30 PB0 (io), 31 PE7 (io), 32 PE6 (io), 33 PE5 (io), 34 PC1 (io), 35 PC2 (io), 36 PC3 (io), 37 PC4 (io), 38 PC5 (io), 39 VSSIO_2 (power), 40 VDDIO_2 (power), 41 PC6 (io), 42 PC7 (io), 43 PG0 (io), 44 PG1 (io), 45 PG2 (io), 46 PG3 (io), 47 PG4 (io), 48 PI0 (io), 49 PG5 (io), 50 PG6 (io), 51 PG7 (io), 52 PE4 (io), 53 PE3 (io), 54 PE2 (io), 55 PE1 (io), 56 PE0 (io), 57 PD0 (io), 58 PD1 (io), 59 PD2 (io), 60 PD3 (io), 61 PD4 (io), 62 PD5 (io), 63 PD6 (io), 64 PD7 (io)

## STM8S207R8
designator *  value STM8S207R8
ki_keywords: STM8 Microcontroller Performance Line; ki_description: 24MHz, 64K Flash, 2K EEPROM, 10-bit ADC, 2 UARTs, SPI, I²C, LQFP-64; ki_fp_filters: LQFP*10x10mm*P0.5mm*; Footprint: Package_QFP:LQFP-64_10x10mm_P0.5mm; Supplier: https://www.st.com/resource/en/datasheet/stm8s208rb.pdf
footprint LQFP-64_10x10mm_P0.5mm
pins: 1 NRST (in), 2 PA1 (io), 3 PA2 (io), 4 VSSIO_1 (power), 5 VSS (power), 6 VCAP (in), 7 VDD (power), 8 VDDIO_1 (power), 9 PA3 (io), 10 PA4 (io), 11 PA5 (io), 12 PA6 (io), 13 PF7 (io), 14 PF6 (io), 15 PF5 (io), 16 PF4 (io), 17 PF3 (io), 18 VREF+ (power), 19 VDDA (power), 20 VSSA (power), 21 VREF- (power), 22 PF0 (io), 23 PB7 (io), 24 PB6 (io), 25 PB5 (io), 26 PB4 (io), 27 PB3 (io), 28 PB2 (io), 29 PB1 (io), 30 PB0 (io), 31 PE7 (io), 32 PE6 (io), 33 PE5 (io), 34 PC1 (io), 35 PC2 (io), 36 PC3 (io), 37 PC4 (io), 38 PC5 (io), 39 VSSIO_2 (power), 40 VDDIO_2 (power), 41 PC6 (io), 42 PC7 (io), 43 PG0 (io), 44 PG1 (io), 45 PG2 (io), 46 PG3 (io), 47 PG4 (io), 48 PI0 (io), 49 PG5 (io), 50 PG6 (io), 51 PG7 (io), 52 PE4 (io), 53 PE3 (io), 54 PE2 (io), 55 PE1 (io), 56 PE0 (io), 57 PD0 (io), 58 PD1 (io), 59 PD2 (io), 60 PD3 (io), 61 PD4 (io), 62 PD5 (io), 63 PD6 (io), 64 PD7 (io)

## STM8S207RB
designator *  value STM8S207RB
ki_keywords: STM8 Microcontroller Performance Line; ki_description: 24MHz, 128K Flash, 2K EEPROM, 10-bit ADC, 2 UARTs, SPI, I²C, LQFP-64; ki_fp_filters: LQFP*10x10mm*P0.5mm*; Footprint: Package_QFP:LQFP-64_10x10mm_P0.5mm; Supplier: https://www.st.com/resource/en/datasheet/stm8s208rb.pdf
footprint LQFP-64_10x10mm_P0.5mm
pins: 1 NRST (in), 2 PA1 (io), 3 PA2 (io), 4 VSSIO_1 (power), 5 VSS (power), 6 VCAP (in), 7 VDD (power), 8 VDDIO_1 (power), 9 PA3 (io), 10 PA4 (io), 11 PA5 (io), 12 PA6 (io), 13 PF7 (io), 14 PF6 (io), 15 PF5 (io), 16 PF4 (io), 17 PF3 (io), 18 VREF+ (power), 19 VDDA (power), 20 VSSA (power), 21 VREF- (power), 22 PF0 (io), 23 PB7 (io), 24 PB6 (io), 25 PB5 (io), 26 PB4 (io), 27 PB3 (io), 28 PB2 (io), 29 PB1 (io), 30 PB0 (io), 31 PE7 (io), 32 PE6 (io), 33 PE5 (io), 34 PC1 (io), 35 PC2 (io), 36 PC3 (io), 37 PC4 (io), 38 PC5 (io), 39 VSSIO_2 (power), 40 VDDIO_2 (power), 41 PC6 (io), 42 PC7 (io), 43 PG0 (io), 44 PG1 (io), 45 PG2 (io), 46 PG3 (io), 47 PG4 (io), 48 PI0 (io), 49 PG5 (io), 50 PG6 (io), 51 PG7 (io), 52 PE4 (io), 53 PE3 (io), 54 PE2 (io), 55 PE1 (io), 56 PE0 (io), 57 PD0 (io), 58 PD1 (io), 59 PD2 (io), 60 PD3 (io), 61 PD4 (io), 62 PD5 (io), 63 PD6 (io), 64 PD7 (io)

## STM8S208C6
designator *  value STM8S208C6
ki_keywords: STM8 Microcontroller Performance Line; ki_description: 24MHz, 32K Flash, 2K EEPROM, 10-bit ADC, 2 UARTs, SPI, I²C, CAN, LQFP-48; ki_fp_filters: LQFP*7x7mm*P0.5mm*; Footprint: Package_QFP:LQFP-48_7x7mm_P0.5mm; Supplier: https://www.st.com/resource/en/datasheet/stm8s208cb.pdf
footprint LQFP-48_7x7mm_P0.5mm
pins: 1 NRST (in), 2 PA1 (io), 3 PA2 (io), 4 VSSIO_1 (power), 5 VSS (power), 6 VCAP (in), 7 VDD (power), 8 VDDIO_1 (power), 9 PA3 (io), 10 PA4 (io), 11 PA5 (io), 12 PA6 (io), 13 VDDA (power), 14 VSSA (power), 15 PB7 (io), 16 PB6 (io), 17 PB5 (io), 18 PB4 (io), 19 PB3 (io), 20 PB2 (io), 21 PB1 (io), 22 PB0 (io), 23 PE7 (io), 24 PE6 (io), 25 PE5 (io), 26 PC1 (io), 27 PC2 (io), 28 PC3 (io), 29 PC4 (io), 30 PC5 (io), 31 VSSIO_2 (power), 32 VDDIO_2 (power), 33 PC6 (io), 34 PC7 (io), 35 PG0 (io), 36 PG1 (io), 37 PE3 (io), 38 PE2 (io), 39 PE1 (io), 40 PE0 (io), 41 PD0 (io), 42 PD1 (io), 43 PD2 (io), 44 PD3 (io), 45 PD4 (io), 46 PD5 (io), 47 PD6 (io), 48 PD7 (io)

## STM8S208C8
designator *  value STM8S208C8
ki_keywords: STM8 Microcontroller Performance Line; ki_description: 24MHz, 64K Flash, 2K EEPROM, 10-bit ADC, 2 UARTs, SPI, I²C, CAN, LQFP-48; ki_fp_filters: LQFP*7x7mm*P0.5mm*; Footprint: Package_QFP:LQFP-48_7x7mm_P0.5mm; Supplier: https://www.st.com/resource/en/datasheet/stm8s208cb.pdf
footprint LQFP-48_7x7mm_P0.5mm
pins: 1 NRST (in), 2 PA1 (io), 3 PA2 (io), 4 VSSIO_1 (power), 5 VSS (power), 6 VCAP (in), 7 VDD (power), 8 VDDIO_1 (power), 9 PA3 (io), 10 PA4 (io), 11 PA5 (io), 12 PA6 (io), 13 VDDA (power), 14 VSSA (power), 15 PB7 (io), 16 PB6 (io), 17 PB5 (io), 18 PB4 (io), 19 PB3 (io), 20 PB2 (io), 21 PB1 (io), 22 PB0 (io), 23 PE7 (io), 24 PE6 (io), 25 PE5 (io), 26 PC1 (io), 27 PC2 (io), 28 PC3 (io), 29 PC4 (io), 30 PC5 (io), 31 VSSIO_2 (power), 32 VDDIO_2 (power), 33 PC6 (io), 34 PC7 (io), 35 PG0 (io), 36 PG1 (io), 37 PE3 (io), 38 PE2 (io), 39 PE1 (io), 40 PE0 (io), 41 PD0 (io), 42 PD1 (io), 43 PD2 (io), 44 PD3 (io), 45 PD4 (io), 46 PD5 (io), 47 PD6 (io), 48 PD7 (io)

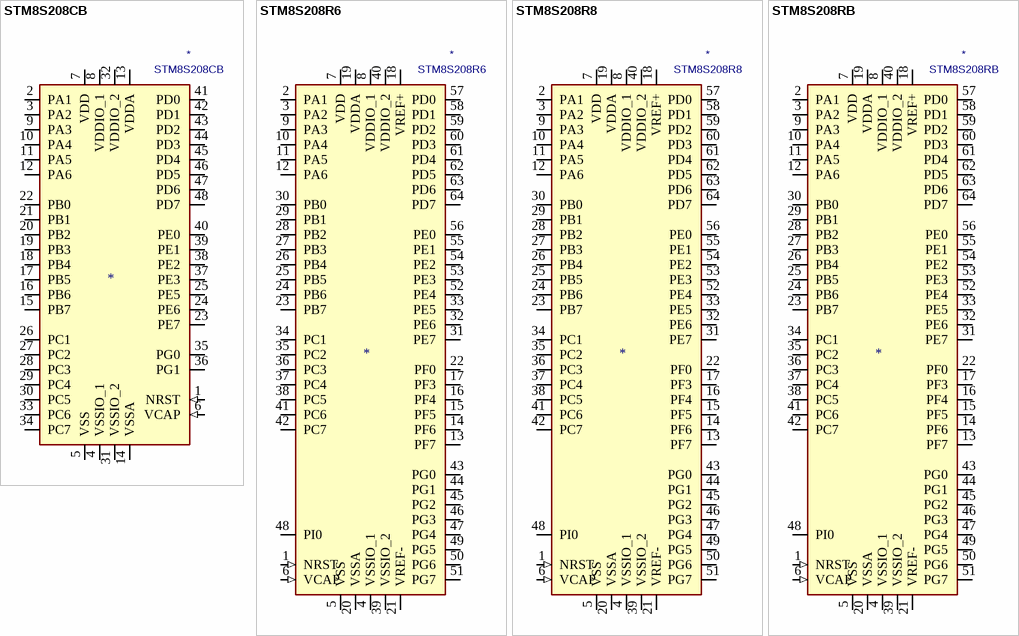
[diagram p2: symbols STM8S208CB to STM8S208RB]

## STM8S208CB
designator *  value STM8S208CB
ki_keywords: STM8 Microcontroller Performance Line; ki_description: 24MHz, 128K Flash, 2K EEPROM, 10-bit ADC, 2 UARTs, SPI, I²C, CAN, LQFP-48; ki_fp_filters: LQFP*7x7mm*P0.5mm*; Footprint: Package_QFP:LQFP-48_7x7mm_P0.5mm; Supplier: https://www.st.com/resource/en/datasheet/stm8s208cb.pdf
footprint LQFP-48_7x7mm_P0.5mm
pins: 1 NRST (in), 2 PA1 (io), 3 PA2 (io), 4 VSSIO_1 (power), 5 VSS (power), 6 VCAP (in), 7 VDD (power), 8 VDDIO_1 (power), 9 PA3 (io), 10 PA4 (io), 11 PA5 (io), 12 PA6 (io), 13 VDDA (power), 14 VSSA (power), 15 PB7 (io), 16 PB6 (io), 17 PB5 (io), 18 PB4 (io), 19 PB3 (io), 20 PB2 (io), 21 PB1 (io), 22 PB0 (io), 23 PE7 (io), 24 PE6 (io), 25 PE5 (io), 26 PC1 (io), 27 PC2 (io), 28 PC3 (io), 29 PC4 (io), 30 PC5 (io), 31 VSSIO_2 (power), 32 VDDIO_2 (power), 33 PC6 (io), 34 PC7 (io), 35 PG0 (io), 36 PG1 (io), 37 PE3 (io), 38 PE2 (io), 39 PE1 (io), 40 PE0 (io), 41 PD0 (io), 42 PD1 (io), 43 PD2 (io), 44 PD3 (io), 45 PD4 (io), 46 PD5 (io), 47 PD6 (io), 48 PD7 (io)

## STM8S208R6
designator *  value STM8S208R6
ki_keywords: STM8 Microcontroller Performance Line; ki_description: 24MHz, 32K Flash, 2K EEPROM, 10-bit ADC, 2 UARTs, SPI, I²C, CAN, LQFP-64; ki_fp_filters: LQFP*10x10mm*P0.5mm*; Footprint: Package_QFP:LQFP-64_10x10mm_P0.5mm; Supplier: https://www.st.com/resource/en/datasheet/stm8s208rb.pdf
footprint LQFP-64_10x10mm_P0.5mm
pins: 1 NRST (in), 2 PA1 (io), 3 PA2 (io), 4 VSSIO_1 (power), 5 VSS (power), 6 VCAP (in), 7 VDD (power), 8 VDDIO_1 (power), 9 PA3 (io), 10 PA4 (io), 11 PA5 (io), 12 PA6 (io), 13 PF7 (io), 14 PF6 (io), 15 PF5 (io), 16 PF4 (io), 17 PF3 (io), 18 VREF+ (power), 19 VDDA (power), 20 VSSA (power), 21 VREF- (power), 22 PF0 (io), 23 PB7 (io), 24 PB6 (io), 25 PB5 (io), 26 PB4 (io), 27 PB3 (io), 28 PB2 (io), 29 PB1 (io), 30 PB0 (io), 31 PE7 (io), 32 PE6 (io), 33 PE5 (io), 34 PC1 (io), 35 PC2 (io), 36 PC3 (io), 37 PC4 (io), 38 PC5 (io), 39 VSSIO_2 (power), 40 VDDIO_2 (power), 41 PC6 (io), 42 PC7 (io), 43 PG0 (io), 44 PG1 (io), 45 PG2 (io), 46 PG3 (io), 47 PG4 (io), 48 PI0 (io), 49 PG5 (io), 50 PG6 (io), 51 PG7 (io), 52 PE4 (io), 53 PE3 (io), 54 PE2 (io), 55 PE1 (io), 56 PE0 (io), 57 PD0 (io), 58 PD1 (io), 59 PD2 (io), 60 PD3 (io), 61 PD4 (io), 62 PD5 (io), 63 PD6 (io), 64 PD7 (io)

## STM8S208R8
designator *  value STM8S208R8
ki_keywords: STM8 Microcontroller Performance Line; ki_description: 24MHz, 64K Flash, 2K EEPROM, 10-bit ADC, 2 UARTs, SPI, I²C, CAN, LQFP-64; ki_fp_filters: LQFP*10x10mm*P0.5mm*; Footprint: Package_QFP:LQFP-64_10x10mm_P0.5mm; Supplier: https://www.st.com/resource/en/datasheet/stm8s208rb.pdf
footprint LQFP-64_10x10mm_P0.5mm
pins: 1 NRST (in), 2 PA1 (io), 3 PA2 (io), 4 VSSIO_1 (power), 5 VSS (power), 6 VCAP (in), 7 VDD (power), 8 VDDIO_1 (power), 9 PA3 (io), 10 PA4 (io), 11 PA5 (io), 12 PA6 (io), 13 PF7 (io), 14 PF6 (io), 15 PF5 (io), 16 PF4 (io), 17 PF3 (io), 18 VREF+ (power), 19 VDDA (power), 20 VSSA (power), 21 VREF- (power), 22 PF0 (io), 23 PB7 (io), 24 PB6 (io), 25 PB5 (io), 26 PB4 (io), 27 PB3 (io), 28 PB2 (io), 29 PB1 (io), 30 PB0 (io), 31 PE7 (io), 32 PE6 (io), 33 PE5 (io), 34 PC1 (io), 35 PC2 (io), 36 PC3 (io), 37 PC4 (io), 38 PC5 (io), 39 VSSIO_2 (power), 40 VDDIO_2 (power), 41 PC6 (io), 42 PC7 (io), 43 PG0 (io), 44 PG1 (io), 45 PG2 (io), 46 PG3 (io), 47 PG4 (io), 48 PI0 (io), 49 PG5 (io), 50 PG6 (io), 51 PG7 (io), 52 PE4 (io), 53 PE3 (io), 54 PE2 (io), 55 PE1 (io), 56 PE0 (io), 57 PD0 (io), 58 PD1 (io), 59 PD2 (io), 60 PD3 (io), 61 PD4 (io), 62 PD5 (io), 63 PD6 (io), 64 PD7 (io)

## STM8S208RB
designator *  value STM8S208RB
ki_keywords: STM8 Microcontroller Performance Line; ki_description: 24MHz, 128K Flash, 2K EEPROM, 10-bit ADC, 2 UARTs, SPI, I²C, CAN, LQFP-64; ki_fp_filters: LQFP*10x10mm*P0.5mm*; Footprint: Package_QFP:LQFP-64_10x10mm_P0.5mm; Supplier: https://www.st.com/resource/en/datasheet/stm8s208rb.pdf
footprint LQFP-64_10x10mm_P0.5mm
pins: 1 NRST (in), 2 PA1 (io), 3 PA2 (io), 4 VSSIO_1 (power), 5 VSS (power), 6 VCAP (in), 7 VDD (power), 8 VDDIO_1 (power), 9 PA3 (io), 10 PA4 (io), 11 PA5 (io), 12 PA6 (io), 13 PF7 (io), 14 PF6 (io), 15 PF5 (io), 16 PF4 (io), 17 PF3 (io), 18 VREF+ (power), 19 VDDA (power), 20 VSSA (power), 21 VREF- (power), 22 PF0 (io), 23 PB7 (io), 24 PB6 (io), 25 PB5 (io), 26 PB4 (io), 27 PB3 (io), 28 PB2 (io), 29 PB1 (io), 30 PB0 (io), 31 PE7 (io), 32 PE6 (io), 33 PE5 (io), 34 PC1 (io), 35 PC2 (io), 36 PC3 (io), 37 PC4 (io), 38 PC5 (io), 39 VSSIO_2 (power), 40 VDDIO_2 (power), 41 PC6 (io), 42 PC7 (io), 43 PG0 (io), 44 PG1 (io), 45 PG2 (io), 46 PG3 (io), 47 PG4 (io), 48 PI0 (io), 49 PG5 (io), 50 PG6 (io), 51 PG7 (io), 52 PE4 (io), 53 PE3 (io), 54 PE2 (io), 55 PE1 (io), 56 PE0 (io), 57 PD0 (io), 58 PD1 (io), 59 PD2 (io), 60 PD3 (io), 61 PD4 (io), 62 PD5 (io), 63 PD6 (io), 64 PD7 (io)